# Altium schematic symbol library Cap.SchLib: 2 symbols
Pins are listed as number, name and electrical type; pins without a type are passive.

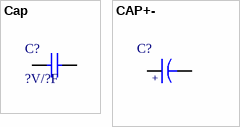
[diagram p0: symbols Cap to CAP+-]

## Cap
designator C?, comment ?V/?F
footprint C0402
footprint C0603
footprint C0805
footprint C1206
footprint C1210
footprint C1812
footprint CAP-27.5-D
footprint C0201
pins: 1, 2

## CAP+-
designator C?
footprint C13x20
footprint C16x25_弯
footprint C12.5x35_弯
pins: 1, 2
text: +